# Altium footprint library TO Packages.PcbLib: 3 footprints
Each footprint in its own frame and in the unit in brackets; x right, y up, seen from the top. Pads: shape width x height; smd on the part's side, far side on the other; paste and mask are expansions set on the pad; w line width, h text height; cw(c..) or ccw(c..) is an arc to the next point about the centre after c.
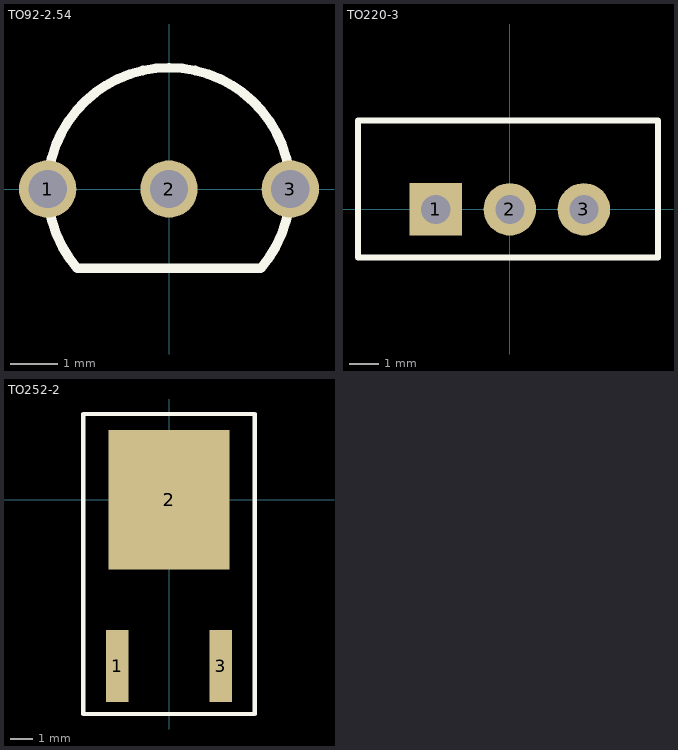
[diagram p0: the footprints below, top view; thin cyan lines are the x and y axes]

## TO92-2.54 [mm] "TO92, 2.54 pitch"
height 8
pads (3):
  round 1.2 hole 0.8: 1(-2.54,0) 2(0,0) 3(2.54,0)
Top Overlay:
  lines w0.2: -1.919,-1.664 cw(c0,0) 1.919,-1.664 -1.919,-1.664
3D body "TO92.STEP": height 7.3, standoff -3, extent -2.62,-1.55 2.62,2.3

## TO220-3 [mm] "TO220, 3 Pins"
pads (3):
  rect 1.8x1.8 hole 1: 1(-2.54,0)
  round 1.8 hole 1: 2(0,0) 3(2.54,0)
Top Overlay:
  lines w0.2: -5.207,-1.651 -5.207,3.048 5.08,3.048 5.08,-1.651 -5.207,-1.651
3D body "TO220-3.STEP": height 18.76, standoff -8.06, extent -5.117,-1.641 5.117,2.941

## TO252-2 [mm] "TO252, 2 Pins"
height 2.5
pads (3):
  rect 1x3.2 smd: 1(-2.29,-7.4) 3(2.29,-7.4)
  rect 5.4x6.2 smd: 2(0,0)
Top Overlay:
  lines w0.2: -3.81,-9.525 -3.81,3.81 3.81,3.81 3.81,-9.525 -3.81,-9.525
3D body "TO252-2.STEP": height 2.31, standoff 0.01, extent -3.3,-8.209 3.3,2.021